# EAGLE library part CON-SIM (library wolff-den)
Conn SIM SKT 6 POS 2.54mm Solder RA SMD
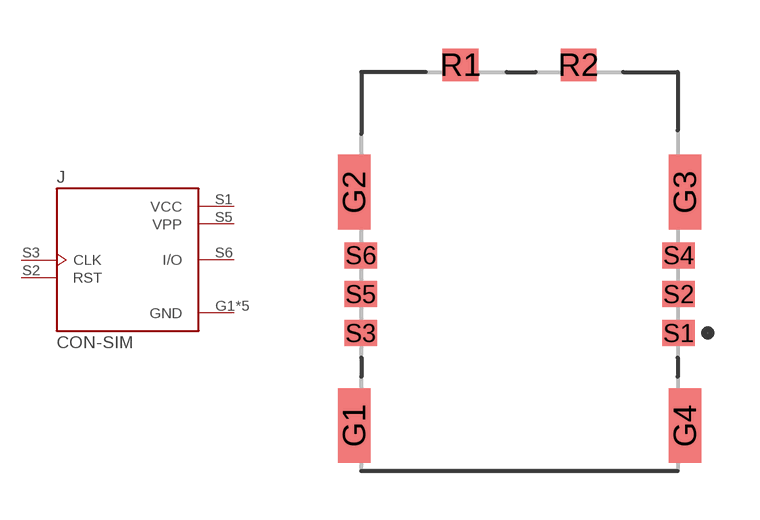
[diagram p3: symbol with the pads of MOLEX_104224-0820; footprint MOLEX_104224-0820]

Designator prefix J

## CON-SIM, CON-SIM-104224-0820 (DESC: NANOSIM SOCKET 1.11H P/PULL TYPE; DESCRIPTION: 6 Position Card Connector NANO SIM Surface Mount, Right Angle Gold; MF: Molex; MPN: 104224-0820; PACKAGE: None; PRICE: None)  [MOLEX_104224-0820]
G1  GND  pwr
G2  GND  pwr
G3  GND  pwr
G4  GND  pwr
S1  VCC  pwr
S2  RST  in
S3  CLK  in
S4  GND  pwr
S5  VPP  pwr
S6  I/O

## Footprint MOLEX_104224-0820 (pad centres in mm)
smd 1 x 2.3: G1 -5.1,1.5; G2 -5.1,8.7; G3 5.1,8.7; G4 5.1,1.5
smd 1.1 x 1: R1 -1.82,12.625; R2 1.82,12.625
smd 1 x 0.8: S1 4.9,4.35; S2 4.9,5.55; S3 -4.9,4.35; S4 4.9,6.75; S5 -4.9,5.55; S6 -4.9,6.75